# EAGLE library part EM9304V01CS25B (library EM9304V01CS25B)
IC RF TxRx + MCU Bluetooth Bluetooth v5.0 2.4GHz 25-UFBGA, WLCSP Check availability <https://pricing.snapeda.com/parts/EM9304V01CS25B/EM%20Microelectronic-Marin/view-part?ref=eda>
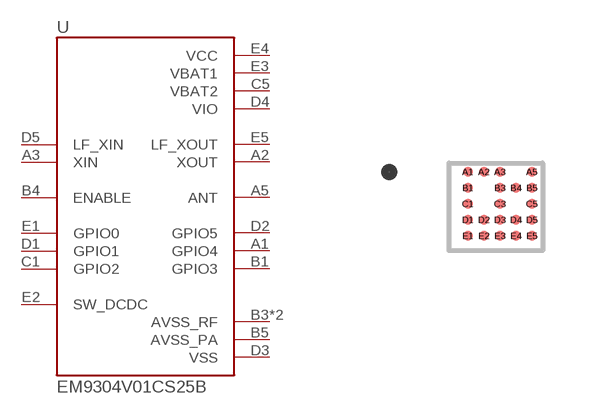
[diagram p0: symbol with the pads of BGA25N40P5X5_234X220X58N; footprint BGA25N40P5X5_234X220X58N]

Designator prefix U

## EM9304V01CS25B (Availability: In Stock; Description: IC RF TxRx + MCU Bluetooth Bluetooth v5.0 2.4GHz 25-UFBGA, WLCSP; MF: EM Microelectronic-Marin; MP: EM9304V01CS25B; Package: None; Price: None; Purchase-URL: https://pricing.snapeda.com/search/part/EM9304V01CS25B/?ref=eda)  [BGA25N40P5X5_234X220X58N]
A1  GPIO4
A2  XOUT  out
A3  XIN  in
A5  ANT
B1  GPIO3
B3  AVSS_RF  pwr
B4  ENABLE  in
B5  AVSS_PA  pwr
C1  GPIO2
C3  AVSS_RF  pwr
C5  VBAT2  pwr
D1  GPIO1
D2  GPIO5
D3  VSS  pwr
D4  VIO  pwr
D5  LF_XIN  in
E1  GPIO0
E2  SW_DCDC  pas
E3  VBAT1  pwr
E4  VCC  pwr
E5  LF_XOUT  out

## Footprint BGA25N40P5X5_234X220X58N (pad centres in mm)
smd 0.25 x 0.25: A1 -0.8,0.8; A2 -0.4,0.8; A3 0,0.8; A5 0.8,0.8; B1 -0.8,0.4; B3 0,0.4; B4 0.4,0.4; B5 0.8,0.4; C1 -0.8,0; C3 0,0; C5 0.8,0; D1 -0.8,-0.4; D2 -0.4,-0.4; D3 0,-0.4; D4 0.4,-0.4; D5 0.8,-0.4; E1 -0.8,-0.8; E2 -0.4,-0.8; E3 0,-0.8; E4 0.4,-0.8; E5 0.8,-0.8